# EAGLE library part USB4730-GF-A_REVA (library con-usb)
Check availability <https://pricing.snapeda.com/parts/USB4730-GF-A/Global%20Connector%20Technology/view-part?ref=eda>
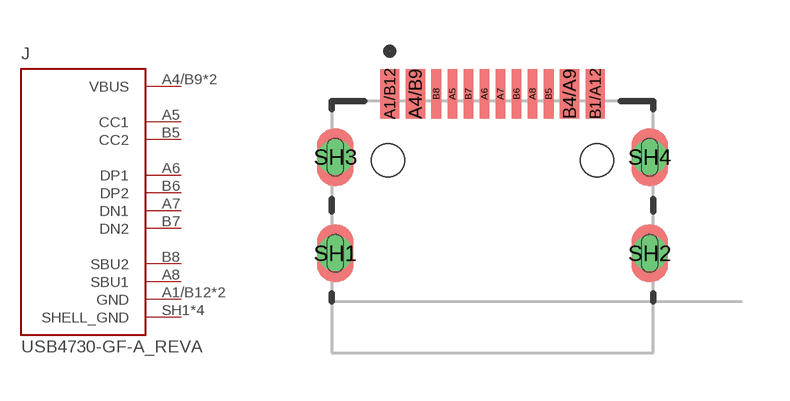
[diagram p0: symbol with the pads of GCT_USB4730-GF-A_REVA; footprint GCT_USB4730-GF-A_REVA]

Designator prefix J

## USB4730-GF-A_REVA (AVAILABILITY: In Stock; CHECK_PRICES: https://www.snapeda.com/parts/USB4730-GF-A/Global+Connector+Technology/view-part/?ref=eda; DESCRIPTION: USB-C (USB TYPE-C) USB 2.0 Receptacle Connector 24 (16+8 Dummy) Position Surface Mount, Right Angle; Through Hole; LCSC: C5446865; MF: Global Connector Technology; MP: USB4730-GF-A; PACKAGE: None; PRICE: None; SNAPEDA_LINK: https://www.snapeda.com/parts/USB4730-GF-A/Global+Connector+Technology/view-part/?ref=snap)  [GCT_USB4730-GF-A_REVA]
A1/B12  GND  pwr
A4/B9  VBUS  pwr
A5  CC1
A6  DP1
A7  DN1
A8  SBU1
B1/A12  GND  pwr
B4/A9  VBUS  pwr
B5  CC2
B6  DP2
B7  DN2
B8  SBU2
SH1  SHELL_GND  pwr
SH2  SHELL_GND  pwr
SH3  SHELL_GND  pwr
SH4  SHELL_GND  pwr

## Footprint GCT_USB4730-GF-A_REVA (pad centres in mm)
smd 0.6 x 1.55: A1/B12 -3.2,4.975; A4/B9 -2.4,4.975; B1/A12 3.2,4.975; B4/A9 2.4,4.975
smd 0.3 x 1.55: A5 -1.25,4.975; A6 -0.25,4.975; A7 0.25,4.975; A8 1.25,4.975; B5 1.75,4.975; B6 0.75,4.975; B7 -0.75,4.975; B8 -1.75,4.975
drill 0.5 pad 1.1: SH1 -4.895,0; SH2 4.895,0; SH3 -4.895,3; SH4 4.895,3
hole 1.02 at -3.25,2.9
hole 1.02 at 3.25,2.9